# EAGLE library part SAB6456 (library philips-semiconductors)
Sensitive 1 GHz divide-by-64/divide-by-256 switchable prescaler Source: PHILIPS .. SAB6456.pdf
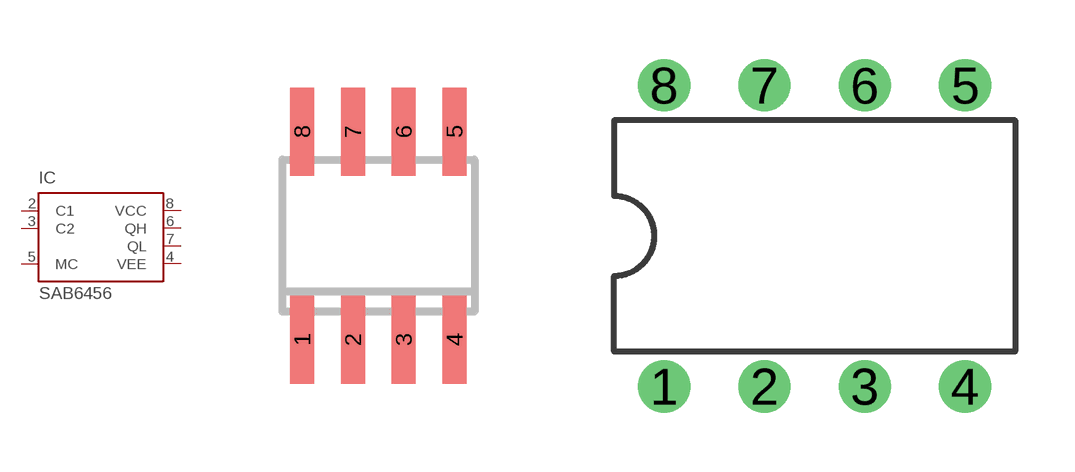
[diagram p0: symbol with the pads of SO08; footprints SO08, DIL08]

Designator prefix IC

## SAB6456T (OC_FARNELL: unknown; OC_NEWARK: unknown)  [SO08]
2  C1  in
3  C2  in
4  VEE  pwr
5  MC  in
6  QH  out
7  QL  out
8  VCC  pwr

## SAB6456 (OC_FARNELL: unknown; OC_NEWARK: unknown)  [DIL08]
Pads as for SO08

## Footprint SO08 (pad centres in mm)
Small Outline Package 8 NS Package M08A
smd 0.6 x 2.2: 1 -1.905,-2.6; 2 -0.635,-2.6; 3 0.635,-2.6; 4 1.905,-2.6; 5 1.905,2.6; 6 0.635,2.6; 7 -0.635,2.6; 8 -1.905,2.6

## Footprint DIL08 (pad centres in mm)
Dual In Line Package
drill 0.813 pad 1.27 round: 1 -3.81,-3.81; 2 -1.27,-3.81; 3 1.27,-3.81; 4 3.81,-3.81; 5 3.81,3.81; 6 1.27,3.81; 7 -1.27,3.81; 8 -3.81,3.81